# Altium footprint library Dell_dc_conectors.PcbLib: 1 footprints
Each footprint in its own frame and in the unit in brackets; x right, y up, seen from the top. Pads: shape width x height; smd on the part's side, far side on the other; paste and mask are expansions set on the pad; w line width, h text height; cw(c..) or ccw(c..) is an arc to the next point about the centre after c.
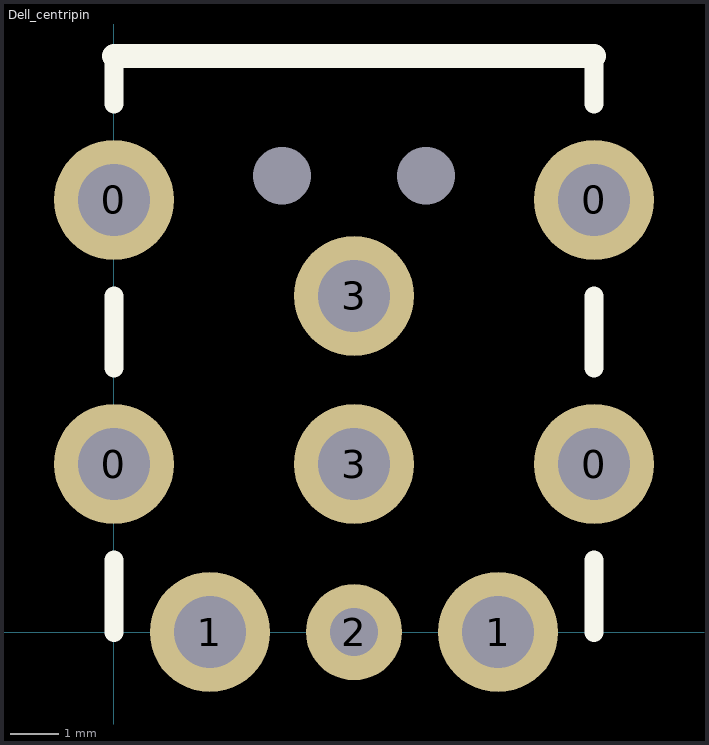
[diagram p0: the footprint, top view; thin cyan lines are the x and y axes]

## Dell_centripin [mm]
height 11
pads (11):
  round 2.5 hole 1.5: 0(0,3.5) 0(0,9) 0(10,3.5) 0(10,9) 1(2,0) 1(8,0) 3(5,3.5) 3(5,7)
  round 2 hole 1: 2(5,0)
  round 0 hole 1.2: 12(3.5,9.5) 13(6.5,9.5)
Top Overlay:
  lines w0.4: 0,0 0,1.5 ; 0,5.5 0,7 ; 0,11 0,12 ; 10,0 10,1.5 ; 10,5.5 10,7 ; 10,11 10,12
  lines w0.5: 0,12 10,12